# EAGLE library part EC2-5.0NU (library mcp3424)
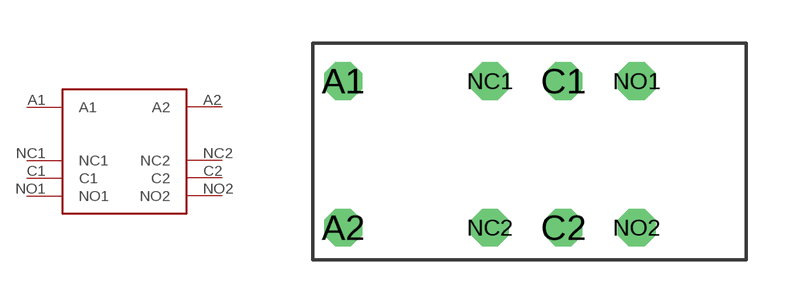
[diagram p7: symbol with the pads of DPDT_RELAY; footprint DPDT_RELAY]

Designator prefix -

## EC2-5.0NU  [DPDT_RELAY]
A1  A1
A2  A2
C1  C1
C2  C2
NC1  NC1
NC2  NC2
NO1  NO1
NO2  NO2

## Footprint DPDT_RELAY (pad centres in mm)
drill 0.8 octagon: A1 -4.03,2.38; A2 -4.03,-2.7; C1 3.59,2.38; C2 3.59,-2.7; NC1 1.05,2.38; NC2 1.05,-2.7; NO1 6.13,2.38; NO2 6.13,-2.7